# EAGLE library part BMI-S-105 (library Custom_old)
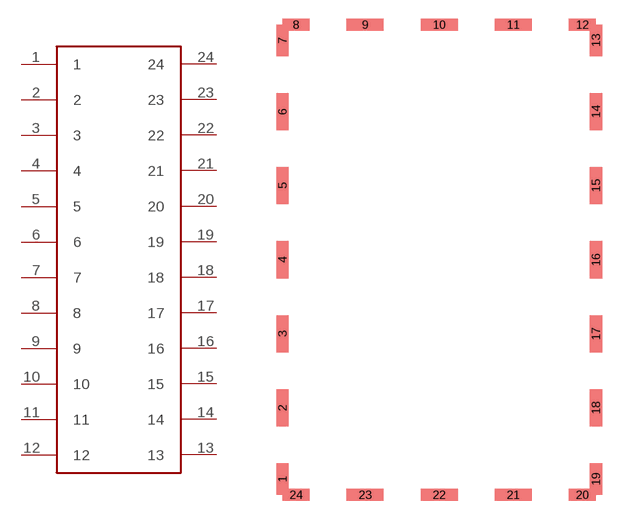
[diagram p4: symbol with the pads of BMI-S-105; footprint BMI-S-105]

Designator prefix -

## BMI-S-105  [BMI-S-105]
1  1
2  2
3  3
4  4
5  5
6  6
7  7
8  8
9  9
10  10
11  11
12  12
13  13
14  14
15  15
16  16
17  17
18  18
19  19
20  20
21  21
22  22
23  23
24  24

## Footprint BMI-S-105 (pad centres in mm)
smd 1 x 2.55: 1 0,1.275; 7 0,36.825; 13 25.4,36.825; 19 25.4,1.275
smd 1 x 3: 2 0,7.05; 3 0,13.05; 4 0,19.05; 5 0,25.05; 6 0,31.05; 14 25.4,31.05; 15 25.4,25.05; 16 25.4,19.05; 17 25.4,13.05; 18 25.4,7.05
smd 2.2 x 1: 8 1.1,38.1; 12 24.3,38.1; 20 24.3,0; 24 1.1,0
smd 3 x 1: 9 6.7,38.1; 10 12.7,38.1; 11 18.7,38.1; 21 18.7,0; 22 12.7,0; 23 6.7,0